# Altium footprint library Pcb_SS34.PcbLib: 1 footprints
Each footprint in its own frame and in the unit in brackets; x right, y up, seen from the top. Pads: shape width x height; smd on the part's side, far side on the other; paste and mask are expansions set on the pad; w line width, h text height; cw(c..) or ccw(c..) is an arc to the next point about the centre after c.
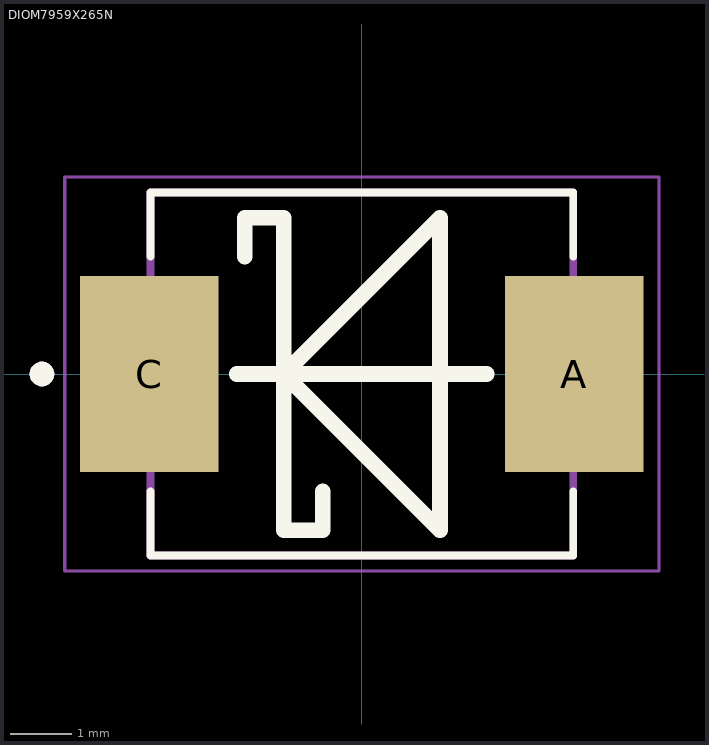
[diagram p0: the footprint, top view; thin cyan lines are the x and y axes]

## DIOM7959X265N [mm]
height 2.65
pads (2):
  rect 2.25x3.18 smd: A(3.455,0) C(-3.455,0)
Top Overlay:
  circle w0.2: c-5.2,0 r0.1
  lines w0.127: -3.437,-1.91 -3.437,-2.95 3.437,-2.95 3.437,-1.91 ; -3.437,1.91 -3.437,2.95 3.437,2.95 3.437,1.91
  lines w0.254: -2.032,0 2.032,0 ; -1.905,1.905 -1.905,2.54 -1.27,2.54 -1.27,-2.54 -0.635,-2.54 -0.635,-1.905 ; -1.27,0 1.27,2.54 1.27,-2.54 -1.27,0
Mechanical 13:
  circle w0.2: c-5.2,0 r0.1
  lines w0.127: -3.437,-2.95 -3.437,2.95 3.437,2.95 3.437,-2.95 -3.437,-2.95
Mechanical 15:
  lines w0.05: -4.83,-3.2 4.83,-3.2 4.83,3.2 -4.83,3.2 -4.83,-3.2
3D body "step_temp.STEP": height 2.65, standoff 0, extent -3.975,-2.95 3.975,2.95